# EAGLE library part RN4871-V/RM118 (library RN4871-V_RM118)
Bluetooth 4.2 BLE Module Shielded Antenna ASCII Interface 9x11.5mm
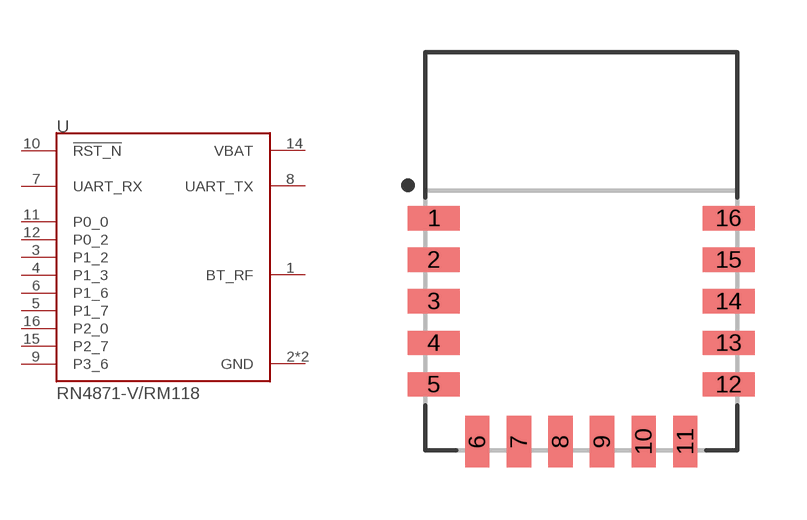
[diagram p0: symbol with the pads of XCVR_RN4871-V/RM118; footprint XCVR_RN4871-V/RM118]

Designator prefix U

## RN4871-V/RM118 (Description: Bluetooth Bluetooth v5.0 Transceiver Module 2.4GHz Integrated, Chip Surface Mount; Digi-Key_Part_Number: RN4871-V/RM118-ND; MF: Microchip; MP: RN4871-V/RM118; Package: SMD-16 Microchip; Purchase-URL: https://pricing.snapeda.com/search/part/RN4871-V/RM118/?ref=eda)  [XCVR_RN4871-V/RM118]
1  BT_RF
2  GND  pwr
3  P1_2
4  P1_3
5  P1_7
6  P1_6
7  UART_RX  in
8  UART_TX  out
9  P3_6
10  !RST_N  in
11  P0_0
12  P0_2
13  GND  pwr
14  VBAT  pwr
15  P2_7
16  P2_0

## Footprint XCVR_RN4871-V/RM118 (pad centres in mm)
smd 1.5 x 0.7: 1 -4.25,0.95; 2 -4.25,-0.25; 3 -4.25,-1.45; 4 -4.25,-2.65; 5 -4.25,-3.85; 12 4.25,-3.85; 13 4.25,-2.65; 14 4.25,-1.45; 15 4.25,-0.25; 16 4.25,0.95
smd 0.7 x 1.5: 6 -3,-5.5; 7 -1.8,-5.5; 8 -0.6,-5.5; 9 0.6,-5.5; 10 1.8,-5.5; 11 3,-5.5